# Altium integrated library NSC MiscPower.IntLib: 1417 symbols (part 34 of 39)
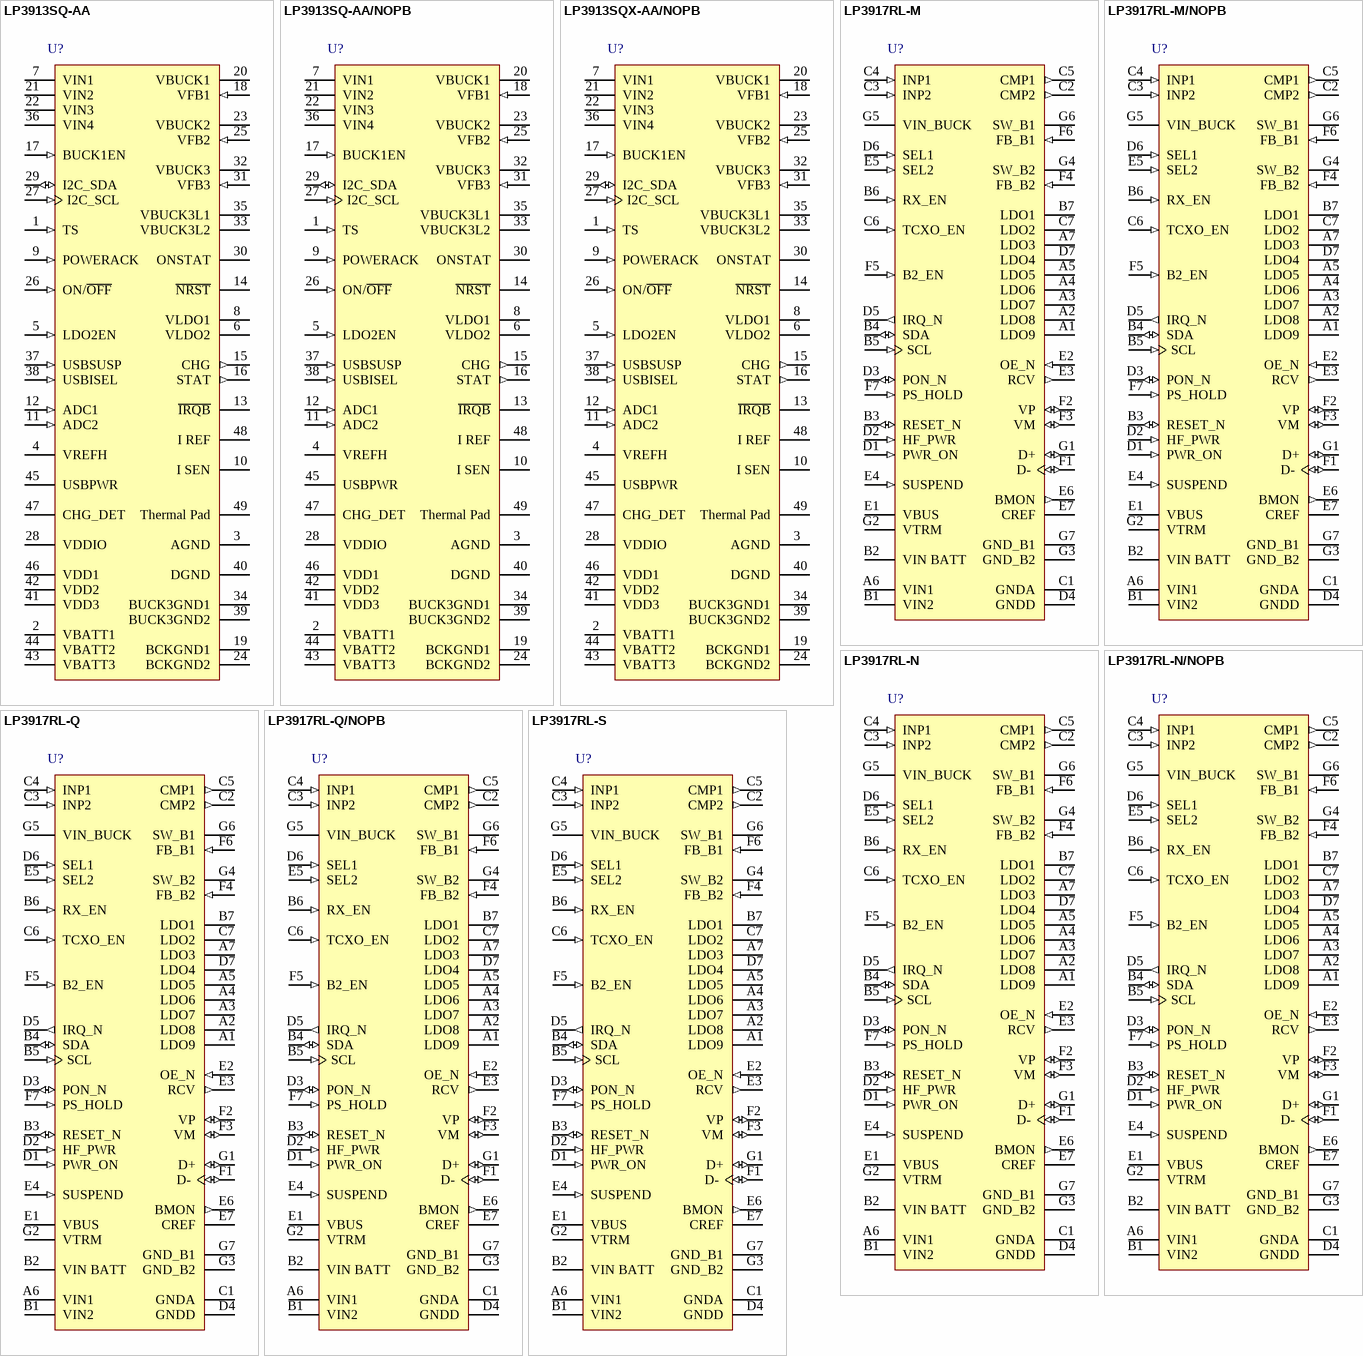
[diagram p84: symbols LP3913SQ-AA to LP3917RL-S]

## LP3913SQ-AA
designator U?
Power Management IC for Flash Memory Based Portable Media Players, 48-pin LLP; PartNumber: LP3913SQ-AA; Manufacturer: National Semiconductor; PackageTopMarking: NS*UZXYTT*L3913-AA; PowerWise: Y; CompType: MiscPower; Published: 4-Dec-2008; DatasheetVersion: Sep-2008; PackageVersion: revA, May-2004; PackageReference: SQF48A; Publisher: Altium Limited; PackageDescription: LLP, Quad, 6 x 6 x 0.8mm Body, 48 Lead, 0.4mm Pitch, 4.6 x 4.6mm Exposed Pad; RoHS: Y; PinCount: 48; ComponentLink1Description: LP3913 Datasheet; ComponentLink1URL: http://www.national.com/ds/LP/LP3913.pdf; ComponentLink2Description: LP3913 Web Page; ComponentLink2URL: http://www.national.com/pf/LP/LP3913.html; ComponentLink3Description: SQF48A Package Page; ComponentLink3URL: http://www.national.com/packaging/folders/sqf48a.html
footprint SQF48A (QFN, 48-Leads, Body 6x6 mm, Pitch 0.4mm, NSC Recommended)
pins: 1 TS (in), 2 VBATT1 (power), 3 AGND (power), 4 VREFH, 5 LDO2EN (in), 6 VLDO2 (power), 7 VIN1 (power), 8 VLDO1 (power), 9 POWERACK (in), 10 I SEN, 11 ADC2 (in), 12 ADC1 (in), 13 ~{IRQB} (oc), 14 ~{NRST} (oc), 15 CHG (out), 16 STAT (out), 17 BUCK1EN (in), 18 VFB1 (in), 19 BCKGND1 (power), 20 VBUCK1 (power), 21 VIN2 (power), 22 VIN3 (power), 23 VBUCK2 (power), 24 BCKGND2 (power), 25 VFB2 (in), 26 ON/~{OFF} (in), 27 I2C_SCL (in), 28 VDDIO (power), 29 I2C_SDA (io), 30 ONSTAT (oc), 31 VFB3 (in), 32 VBUCK3 (power), 33 VBUCK3L2, 34 BUCK3GND1 (power), 35 VBUCK3L1, 36 VIN4 (power), 37 USBSUSP (in), 38 USBISEL (in), 39 BUCK3GND2 (power), 40 DGND (power), 41 VDD3 (power), 42 VDD2 (power), 43 VBATT3 (power), 44 VBATT2 (power), 45 USBPWR (power), 46 VDD1 (power), 47 CHG_DET (power), 48 I REF, 49 Thermal Pad (power)

## LP3913SQ-AA/NOPB
designator U?
Power Management IC for Flash Memory Based Portable Media Players, 48-pin LLP, Pb-Free; PartNumber: LP3913SQ-AA/NOPB; Manufacturer: National Semiconductor; PackageTopMarking: NS*UZXYTTE#*L3913-AA; PowerWise: Y; CompType: MiscPower; Published: 1-Mar-2010; DatasheetVersion: Sep-2008; PackageVersion: revA, May-2004; PackageReference: SQF48A; Publisher: Altium Limited; PackageDescription: LLP, Quad, 6 x 6 x 0.8mm Body, 48 Lead, 0.4mm Pitch, 4.6 x 4.6mm Exposed Pad; Supplier 1: Digi-Key; Supplier Part Number 1: LP3913SQ-AATR-ND; Supplier 2: Digi-Key; Supplier Part Number 2: LP3913SQ-AACT-ND; Supplier 3: Digi-Key; Supplier Part Number 3: LP3913SQ-AADKR-ND; RoHS: Y; PinCount: 48; ComponentLink1Description: LP3913 Datasheet; ComponentLink1URL: http://www.national.com/ds/LP/LP3913.pdf; ComponentLink2Description: LP3913 Web Page; ComponentLink2URL: http://www.national.com/pf/LP/LP3913.html; ComponentLink3Description: SQF48A Package Page; ComponentLink3URL: http://www.national.com/packaging/folders/sqf48a.html
footprint SQF48A (QFN, 48-Leads, Body 6x6 mm, Pitch 0.4mm, NSC Recommended)
pins: 1 TS (in), 2 VBATT1 (power), 3 AGND (power), 4 VREFH, 5 LDO2EN (in), 6 VLDO2 (power), 7 VIN1 (power), 8 VLDO1 (power), 9 POWERACK (in), 10 I SEN, 11 ADC2 (in), 12 ADC1 (in), 13 ~{IRQB} (oc), 14 ~{NRST} (oc), 15 CHG (out), 16 STAT (out), 17 BUCK1EN (in), 18 VFB1 (in), 19 BCKGND1 (power), 20 VBUCK1 (power), 21 VIN2 (power), 22 VIN3 (power), 23 VBUCK2 (power), 24 BCKGND2 (power), 25 VFB2 (in), 26 ON/~{OFF} (in), 27 I2C_SCL (in), 28 VDDIO (power), 29 I2C_SDA (io), 30 ONSTAT (oc), 31 VFB3 (in), 32 VBUCK3 (power), 33 VBUCK3L2, 34 BUCK3GND1 (power), 35 VBUCK3L1, 36 VIN4 (power), 37 USBSUSP (in), 38 USBISEL (in), 39 BUCK3GND2 (power), 40 DGND (power), 41 VDD3 (power), 42 VDD2 (power), 43 VBATT3 (power), 44 VBATT2 (power), 45 USBPWR (power), 46 VDD1 (power), 47 CHG_DET (power), 48 I REF, 49 Thermal Pad (power)

## LP3913SQX-AA/NOPB
designator U?
Power Management IC for Flash Memory Based Portable Media Players, 48-pin LLP, Pb-Free; PartNumber: LP3913SQX-AA/NOPB; Manufacturer: National Semiconductor; PackageTopMarking: NS*UZXYTTE#*L3913-AA; PowerWise: Y; CompType: MiscPower; Published: 1-Mar-2010; DatasheetVersion: Sep-2008; PackageVersion: revA, May-2004; PackageReference: SQF48A; Publisher: Altium Limited; PackageDescription: LLP, Quad, 6 x 6 x 0.8mm Body, 48 Lead, 0.4mm Pitch, 4.6 x 4.6mm Exposed Pad; Supplier 1: Digi-Key; Supplier Part Number 1: LP3913SQX-AA-ND; RoHS: Y; PinCount: 48; ComponentLink1Description: LP3913 Datasheet; ComponentLink1URL: http://www.national.com/ds/LP/LP3913.pdf; ComponentLink2Description: LP3913 Web Page; ComponentLink2URL: http://www.national.com/pf/LP/LP3913.html; ComponentLink3Description: SQF48A Package Page; ComponentLink3URL: http://www.national.com/packaging/folders/sqf48a.html
footprint SQF48A (QFN, 48-Leads, Body 6x6 mm, Pitch 0.4mm, NSC Recommended)
pins: 1 TS (in), 2 VBATT1 (power), 3 AGND (power), 4 VREFH, 5 LDO2EN (in), 6 VLDO2 (power), 7 VIN1 (power), 8 VLDO1 (power), 9 POWERACK (in), 10 I SEN, 11 ADC2 (in), 12 ADC1 (in), 13 ~{IRQB} (oc), 14 ~{NRST} (oc), 15 CHG (out), 16 STAT (out), 17 BUCK1EN (in), 18 VFB1 (in), 19 BCKGND1 (power), 20 VBUCK1 (power), 21 VIN2 (power), 22 VIN3 (power), 23 VBUCK2 (power), 24 BCKGND2 (power), 25 VFB2 (in), 26 ON/~{OFF} (in), 27 I2C_SCL (in), 28 VDDIO (power), 29 I2C_SDA (io), 30 ONSTAT (oc), 31 VFB3 (in), 32 VBUCK3 (power), 33 VBUCK3L2, 34 BUCK3GND1 (power), 35 VBUCK3L1, 36 VIN4 (power), 37 USBSUSP (in), 38 USBISEL (in), 39 BUCK3GND2 (power), 40 DGND (power), 41 VDD3 (power), 42 VDD2 (power), 43 VBATT3 (power), 44 VBATT2 (power), 45 USBPWR (power), 46 VDD1 (power), 47 CHG_DET (power), 48 I REF, 49 Thermal Pad (power)

## LP3917RL-M
designator U?
CDMA Cellular Phone Power Management Unit, 49-pin Micro SMDXT; PartNumber: LP3917RL-M; Manufacturer: National Semiconductor; PackageTopMarking: XYTT*I V05; PowerWise: N; CompType: MiscPower; Published: 4-Dec-2008; DatasheetVersion: Dec-2006; PackageVersion: revB, Dec-2005; PackageReference: RLA49AAA; Publisher: Altium Limited; PackageDescription: Micro SMDxt, 49 Bump (Large), 0.5mm Pitch; RoHS: Y; PinCount: 49; ComponentLink1Description: LP3917 Datasheet; ComponentLink1URL: http://www.national.com/ds/LP/LP3917.pdf; ComponentLink2Description: LP3917 Web Page; ComponentLink2URL: http://www.national.com/pf/LP/LP3917.html; ComponentLink3Description: RLA49AAA Package Page; ComponentLink3URL: http://www.national.com/packaging/folders/rla49aaa.html
footprint RLA49AAA (Micro SMD, 49-Leads, Body 3.47x3.47mm, Pitch 0.5mm, NSC Recommended)
pins: A1 LDO9 (power), A2 LDO8 (power), A3 LDO7 (power), A4 LDO6 (power), A5 LDO5 (power), A6 VIN1 (power), A7 LDO3 (power), B1 VIN2 (power), B2 VIN BATT (power), B3 RESET_N (io), B4 SDA (io), B5 SCL (in), B6 RX_EN (in), B7 LDO1 (power), C1 GNDA (power), C2 CMP2 (out), C3 INP2 (in), C4 INP1 (in), C5 CMP1 (out), C6 TCXO_EN (in), C7 LDO2 (power), D1 PWR_ON (in), D2 HF_PWR (in), D3 PON_N (io), D4 GNDD (power), D5 IRQ_N (out), D6 SEL1 (in), D7 LDO4 (power), E1 VBUS (power), E2 OE_N (in), E3 RCV (out), E4 SUSPEND (in), E5 SEL2 (in), E6 BMON (out), E7 CREF, F1 D- (io), F2 VP (io), F3 VM (io), F4 FB_B2 (in), F5 B2_EN (in), F6 FB_B1 (in), F7 PS_HOLD (in), G1 D+ (io), G2 VTRM (power), G3 GND_B2 (power), G4 SW_B2 (power), G5 VIN_BUCK (power), G6 SW_B1 (power), G7 GND_B1 (power)

## LP3917RL-M/NOPB
designator U?
CDMA Cellular Phone Power Management Unit, 49-pin Micro SMDXT, Pb-Free; PartNumber: LP3917RL-M/NOPB; Manufacturer: National Semiconductor; PackageTopMarking: XYTT*I V05; PowerWise: N; CompType: MiscPower; Published: 1-Mar-2010; DatasheetVersion: Dec-2006; PackageVersion: revB, Dec-2005; PackageReference: RLA49AAA; Publisher: Altium Limited; PackageDescription: Micro SMDxt, 49 Bump (Large), 0.5mm Pitch; Supplier 1: Digi-Key; Supplier Part Number 1: LP3917RL-MTR-ND; Supplier 2: Digi-Key; Supplier Part Number 2: LP3917RL-MCT-ND; Supplier 3: Digi-Key; Supplier Part Number 3: LP3917RL-MDKR-ND; RoHS: Y; PinCount: 49; ComponentLink1Description: LP3917 Datasheet; ComponentLink1URL: http://www.national.com/ds/LP/LP3917.pdf; ComponentLink2Description: LP3917 Web Page; ComponentLink2URL: http://www.national.com/pf/LP/LP3917.html; ComponentLink3Description: RLA49AAA Package Page; ComponentLink3URL: http://www.national.com/packaging/folders/rla49aaa.html
footprint RLA49AAA (Micro SMD, 49-Leads, Body 3.47x3.47mm, Pitch 0.5mm, NSC Recommended)
pins: A1 LDO9 (power), A2 LDO8 (power), A3 LDO7 (power), A4 LDO6 (power), A5 LDO5 (power), A6 VIN1 (power), A7 LDO3 (power), B1 VIN2 (power), B2 VIN BATT (power), B3 RESET_N (io), B4 SDA (io), B5 SCL (in), B6 RX_EN (in), B7 LDO1 (power), C1 GNDA (power), C2 CMP2 (out), C3 INP2 (in), C4 INP1 (in), C5 CMP1 (out), C6 TCXO_EN (in), C7 LDO2 (power), D1 PWR_ON (in), D2 HF_PWR (in), D3 PON_N (io), D4 GNDD (power), D5 IRQ_N (out), D6 SEL1 (in), D7 LDO4 (power), E1 VBUS (power), E2 OE_N (in), E3 RCV (out), E4 SUSPEND (in), E5 SEL2 (in), E6 BMON (out), E7 CREF, F1 D- (io), F2 VP (io), F3 VM (io), F4 FB_B2 (in), F5 B2_EN (in), F6 FB_B1 (in), F7 PS_HOLD (in), G1 D+ (io), G2 VTRM (power), G3 GND_B2 (power), G4 SW_B2 (power), G5 VIN_BUCK (power), G6 SW_B1 (power), G7 GND_B1 (power)

## LP3917RL-N
designator U?
CDMA Cellular Phone Power Management Unit, 49-pin Micro SMDXT; PartNumber: LP3917RL-N; Manufacturer: National Semiconductor; PackageTopMarking: XYTT*I V03; PowerWise: N; CompType: MiscPower; Published: 4-Dec-2008; DatasheetVersion: Dec-2006; PackageVersion: revB, Dec-2005; PackageReference: RLA49AAA; Publisher: Altium Limited; PackageDescription: Micro SMDxt, 49 Bump (Large), 0.5mm Pitch; RoHS: Y; PinCount: 49; ComponentLink1Description: LP3917 Datasheet; ComponentLink1URL: http://www.national.com/ds/LP/LP3917.pdf; ComponentLink2Description: LP3917 Web Page; ComponentLink2URL: http://www.national.com/pf/LP/LP3917.html; ComponentLink3Description: RLA49AAA Package Page; ComponentLink3URL: http://www.national.com/packaging/folders/rla49aaa.html
footprint RLA49AAA (Micro SMD, 49-Leads, Body 3.47x3.47mm, Pitch 0.5mm, NSC Recommended)
pins: A1 LDO9 (power), A2 LDO8 (power), A3 LDO7 (power), A4 LDO6 (power), A5 LDO5 (power), A6 VIN1 (power), A7 LDO3 (power), B1 VIN2 (power), B2 VIN BATT (power), B3 RESET_N (io), B4 SDA (io), B5 SCL (in), B6 RX_EN (in), B7 LDO1 (power), C1 GNDA (power), C2 CMP2 (out), C3 INP2 (in), C4 INP1 (in), C5 CMP1 (out), C6 TCXO_EN (in), C7 LDO2 (power), D1 PWR_ON (in), D2 HF_PWR (in), D3 PON_N (io), D4 GNDD (power), D5 IRQ_N (out), D6 SEL1 (in), D7 LDO4 (power), E1 VBUS (power), E2 OE_N (in), E3 RCV (out), E4 SUSPEND (in), E5 SEL2 (in), E6 BMON (out), E7 CREF, F1 D- (io), F2 VP (io), F3 VM (io), F4 FB_B2 (in), F5 B2_EN (in), F6 FB_B1 (in), F7 PS_HOLD (in), G1 D+ (io), G2 VTRM (power), G3 GND_B2 (power), G4 SW_B2 (power), G5 VIN_BUCK (power), G6 SW_B1 (power), G7 GND_B1 (power)

## LP3917RL-N/NOPB
designator U?
CDMA Cellular Phone Power Management Unit, 49-pin Micro SMDXT, Pb-Free; PartNumber: LP3917RL-N/NOPB; Manufacturer: National Semiconductor; PackageTopMarking: XYTT*I V03; PowerWise: N; CompType: MiscPower; Published: 1-Mar-2010; DatasheetVersion: Dec-2006; PackageVersion: revB, Dec-2005; PackageReference: RLA49AAA; Publisher: Altium Limited; PackageDescription: Micro SMDxt, 49 Bump (Large), 0.5mm Pitch; Supplier 1: Digi-Key; Supplier Part Number 1: LP3917RL-NTR-ND; Supplier 2: Digi-Key; Supplier Part Number 2: LP3917RL-NCT-ND; Supplier 3: Digi-Key; Supplier Part Number 3: LP3917RL-NDKR-ND; RoHS: Y; PinCount: 49; ComponentLink1Description: LP3917 Datasheet; ComponentLink1URL: http://www.national.com/ds/LP/LP3917.pdf; ComponentLink2Description: LP3917 Web Page; ComponentLink2URL: http://www.national.com/pf/LP/LP3917.html; ComponentLink3Description: RLA49AAA Package Page; ComponentLink3URL: http://www.national.com/packaging/folders/rla49aaa.html
footprint RLA49AAA (Micro SMD, 49-Leads, Body 3.47x3.47mm, Pitch 0.5mm, NSC Recommended)
pins: A1 LDO9 (power), A2 LDO8 (power), A3 LDO7 (power), A4 LDO6 (power), A5 LDO5 (power), A6 VIN1 (power), A7 LDO3 (power), B1 VIN2 (power), B2 VIN BATT (power), B3 RESET_N (io), B4 SDA (io), B5 SCL (in), B6 RX_EN (in), B7 LDO1 (power), C1 GNDA (power), C2 CMP2 (out), C3 INP2 (in), C4 INP1 (in), C5 CMP1 (out), C6 TCXO_EN (in), C7 LDO2 (power), D1 PWR_ON (in), D2 HF_PWR (in), D3 PON_N (io), D4 GNDD (power), D5 IRQ_N (out), D6 SEL1 (in), D7 LDO4 (power), E1 VBUS (power), E2 OE_N (in), E3 RCV (out), E4 SUSPEND (in), E5 SEL2 (in), E6 BMON (out), E7 CREF, F1 D- (io), F2 VP (io), F3 VM (io), F4 FB_B2 (in), F5 B2_EN (in), F6 FB_B1 (in), F7 PS_HOLD (in), G1 D+ (io), G2 VTRM (power), G3 GND_B2 (power), G4 SW_B2 (power), G5 VIN_BUCK (power), G6 SW_B1 (power), G7 GND_B1 (power)

## LP3917RL-Q
designator U?
CDMA Cellular Phone Power Management Unit, 49-pin Micro SMDXT; PartNumber: LP3917RL-Q; Manufacturer: National Semiconductor; PackageTopMarking: XYTT*I V04; PowerWise: N; CompType: MiscPower; Published: 4-Dec-2008; DatasheetVersion: Dec-2006; PackageVersion: revB, Dec-2005; PackageReference: RLA49AAA; Publisher: Altium Limited; PackageDescription: Micro SMDxt, 49 Bump (Large), 0.5mm Pitch; RoHS: Y; PinCount: 49; ComponentLink1Description: LP3917 Datasheet; ComponentLink1URL: http://www.national.com/ds/LP/LP3917.pdf; ComponentLink2Description: LP3917 Web Page; ComponentLink2URL: http://www.national.com/pf/LP/LP3917.html; ComponentLink3Description: RLA49AAA Package Page; ComponentLink3URL: http://www.national.com/packaging/folders/rla49aaa.html
footprint RLA49AAA (Micro SMD, 49-Leads, Body 3.47x3.47mm, Pitch 0.5mm, NSC Recommended)
pins: A1 LDO9 (power), A2 LDO8 (power), A3 LDO7 (power), A4 LDO6 (power), A5 LDO5 (power), A6 VIN1 (power), A7 LDO3 (power), B1 VIN2 (power), B2 VIN BATT (power), B3 RESET_N (io), B4 SDA (io), B5 SCL (in), B6 RX_EN (in), B7 LDO1 (power), C1 GNDA (power), C2 CMP2 (out), C3 INP2 (in), C4 INP1 (in), C5 CMP1 (out), C6 TCXO_EN (in), C7 LDO2 (power), D1 PWR_ON (in), D2 HF_PWR (in), D3 PON_N (io), D4 GNDD (power), D5 IRQ_N (out), D6 SEL1 (in), D7 LDO4 (power), E1 VBUS (power), E2 OE_N (in), E3 RCV (out), E4 SUSPEND (in), E5 SEL2 (in), E6 BMON (out), E7 CREF, F1 D- (io), F2 VP (io), F3 VM (io), F4 FB_B2 (in), F5 B2_EN (in), F6 FB_B1 (in), F7 PS_HOLD (in), G1 D+ (io), G2 VTRM (power), G3 GND_B2 (power), G4 SW_B2 (power), G5 VIN_BUCK (power), G6 SW_B1 (power), G7 GND_B1 (power)

## LP3917RL-Q/NOPB
designator U?
CDMA Cellular Phone Power Management Unit, 49-pin Micro SMDXT, Pb-Free; PartNumber: LP3917RL-Q/NOPB; Manufacturer: National Semiconductor; PackageTopMarking: XYTT*I V04; PowerWise: N; CompType: MiscPower; Published: 1-Mar-2010; DatasheetVersion: Dec-2006; PackageVersion: revB, Dec-2005; PackageReference: RLA49AAA; Publisher: Altium Limited; PackageDescription: Micro SMDxt, 49 Bump (Large), 0.5mm Pitch; Supplier 1: Digi-Key; Supplier Part Number 1: LP3917RL-QTR-ND; Supplier 2: Digi-Key; Supplier Part Number 2: LP3917RL-QCT-ND; Supplier 3: Digi-Key; Supplier Part Number 3: LP3917RL-QDKR-ND; RoHS: Y; PinCount: 49; ComponentLink1Description: LP3917 Datasheet; ComponentLink1URL: http://www.national.com/ds/LP/LP3917.pdf; ComponentLink2Description: LP3917 Web Page; ComponentLink2URL: http://www.national.com/pf/LP/LP3917.html; ComponentLink3Description: RLA49AAA Package Page; ComponentLink3URL: http://www.national.com/packaging/folders/rla49aaa.html
footprint RLA49AAA (Micro SMD, 49-Leads, Body 3.47x3.47mm, Pitch 0.5mm, NSC Recommended)
pins: A1 LDO9 (power), A2 LDO8 (power), A3 LDO7 (power), A4 LDO6 (power), A5 LDO5 (power), A6 VIN1 (power), A7 LDO3 (power), B1 VIN2 (power), B2 VIN BATT (power), B3 RESET_N (io), B4 SDA (io), B5 SCL (in), B6 RX_EN (in), B7 LDO1 (power), C1 GNDA (power), C2 CMP2 (out), C3 INP2 (in), C4 INP1 (in), C5 CMP1 (out), C6 TCXO_EN (in), C7 LDO2 (power), D1 PWR_ON (in), D2 HF_PWR (in), D3 PON_N (io), D4 GNDD (power), D5 IRQ_N (out), D6 SEL1 (in), D7 LDO4 (power), E1 VBUS (power), E2 OE_N (in), E3 RCV (out), E4 SUSPEND (in), E5 SEL2 (in), E6 BMON (out), E7 CREF, F1 D- (io), F2 VP (io), F3 VM (io), F4 FB_B2 (in), F5 B2_EN (in), F6 FB_B1 (in), F7 PS_HOLD (in), G1 D+ (io), G2 VTRM (power), G3 GND_B2 (power), G4 SW_B2 (power), G5 VIN_BUCK (power), G6 SW_B1 (power), G7 GND_B1 (power)

## LP3917RL-S
designator U?
CDMA Cellular Phone Power Management Unit, 49-pin Micro SMDXT; PartNumber: LP3917RL-S; Manufacturer: National Semiconductor; PackageTopMarking: XYTT*I V01; PowerWise: N; CompType: MiscPower; Published: 4-Dec-2008; DatasheetVersion: Dec-2006; PackageVersion: revB, Dec-2005; PackageReference: RLA49AAA; Publisher: Altium Limited; PackageDescription: Micro SMDxt, 49 Bump (Large), 0.5mm Pitch; RoHS: Y; PinCount: 49; ComponentLink1Description: LP3917 Datasheet; ComponentLink1URL: http://www.national.com/ds/LP/LP3917.pdf; ComponentLink2Description: LP3917 Web Page; ComponentLink2URL: http://www.national.com/pf/LP/LP3917.html; ComponentLink3Description: RLA49AAA Package Page; ComponentLink3URL: http://www.national.com/packaging/folders/rla49aaa.html
footprint RLA49AAA (Micro SMD, 49-Leads, Body 3.47x3.47mm, Pitch 0.5mm, NSC Recommended)
pins: A1 LDO9 (power), A2 LDO8 (power), A3 LDO7 (power), A4 LDO6 (power), A5 LDO5 (power), A6 VIN1 (power), A7 LDO3 (power), B1 VIN2 (power), B2 VIN BATT (power), B3 RESET_N (io), B4 SDA (io), B5 SCL (in), B6 RX_EN (in), B7 LDO1 (power), C1 GNDA (power), C2 CMP2 (out), C3 INP2 (in), C4 INP1 (in), C5 CMP1 (out), C6 TCXO_EN (in), C7 LDO2 (power), D1 PWR_ON (in), D2 HF_PWR (in), D3 PON_N (io), D4 GNDD (power), D5 IRQ_N (out), D6 SEL1 (in), D7 LDO4 (power), E1 VBUS (power), E2 OE_N (in), E3 RCV (out), E4 SUSPEND (in), E5 SEL2 (in), E6 BMON (out), E7 CREF, F1 D- (io), F2 VP (io), F3 VM (io), F4 FB_B2 (in), F5 B2_EN (in), F6 FB_B1 (in), F7 PS_HOLD (in), G1 D+ (io), G2 VTRM (power), G3 GND_B2 (power), G4 SW_B2 (power), G5 VIN_BUCK (power), G6 SW_B1 (power), G7 GND_B1 (power)

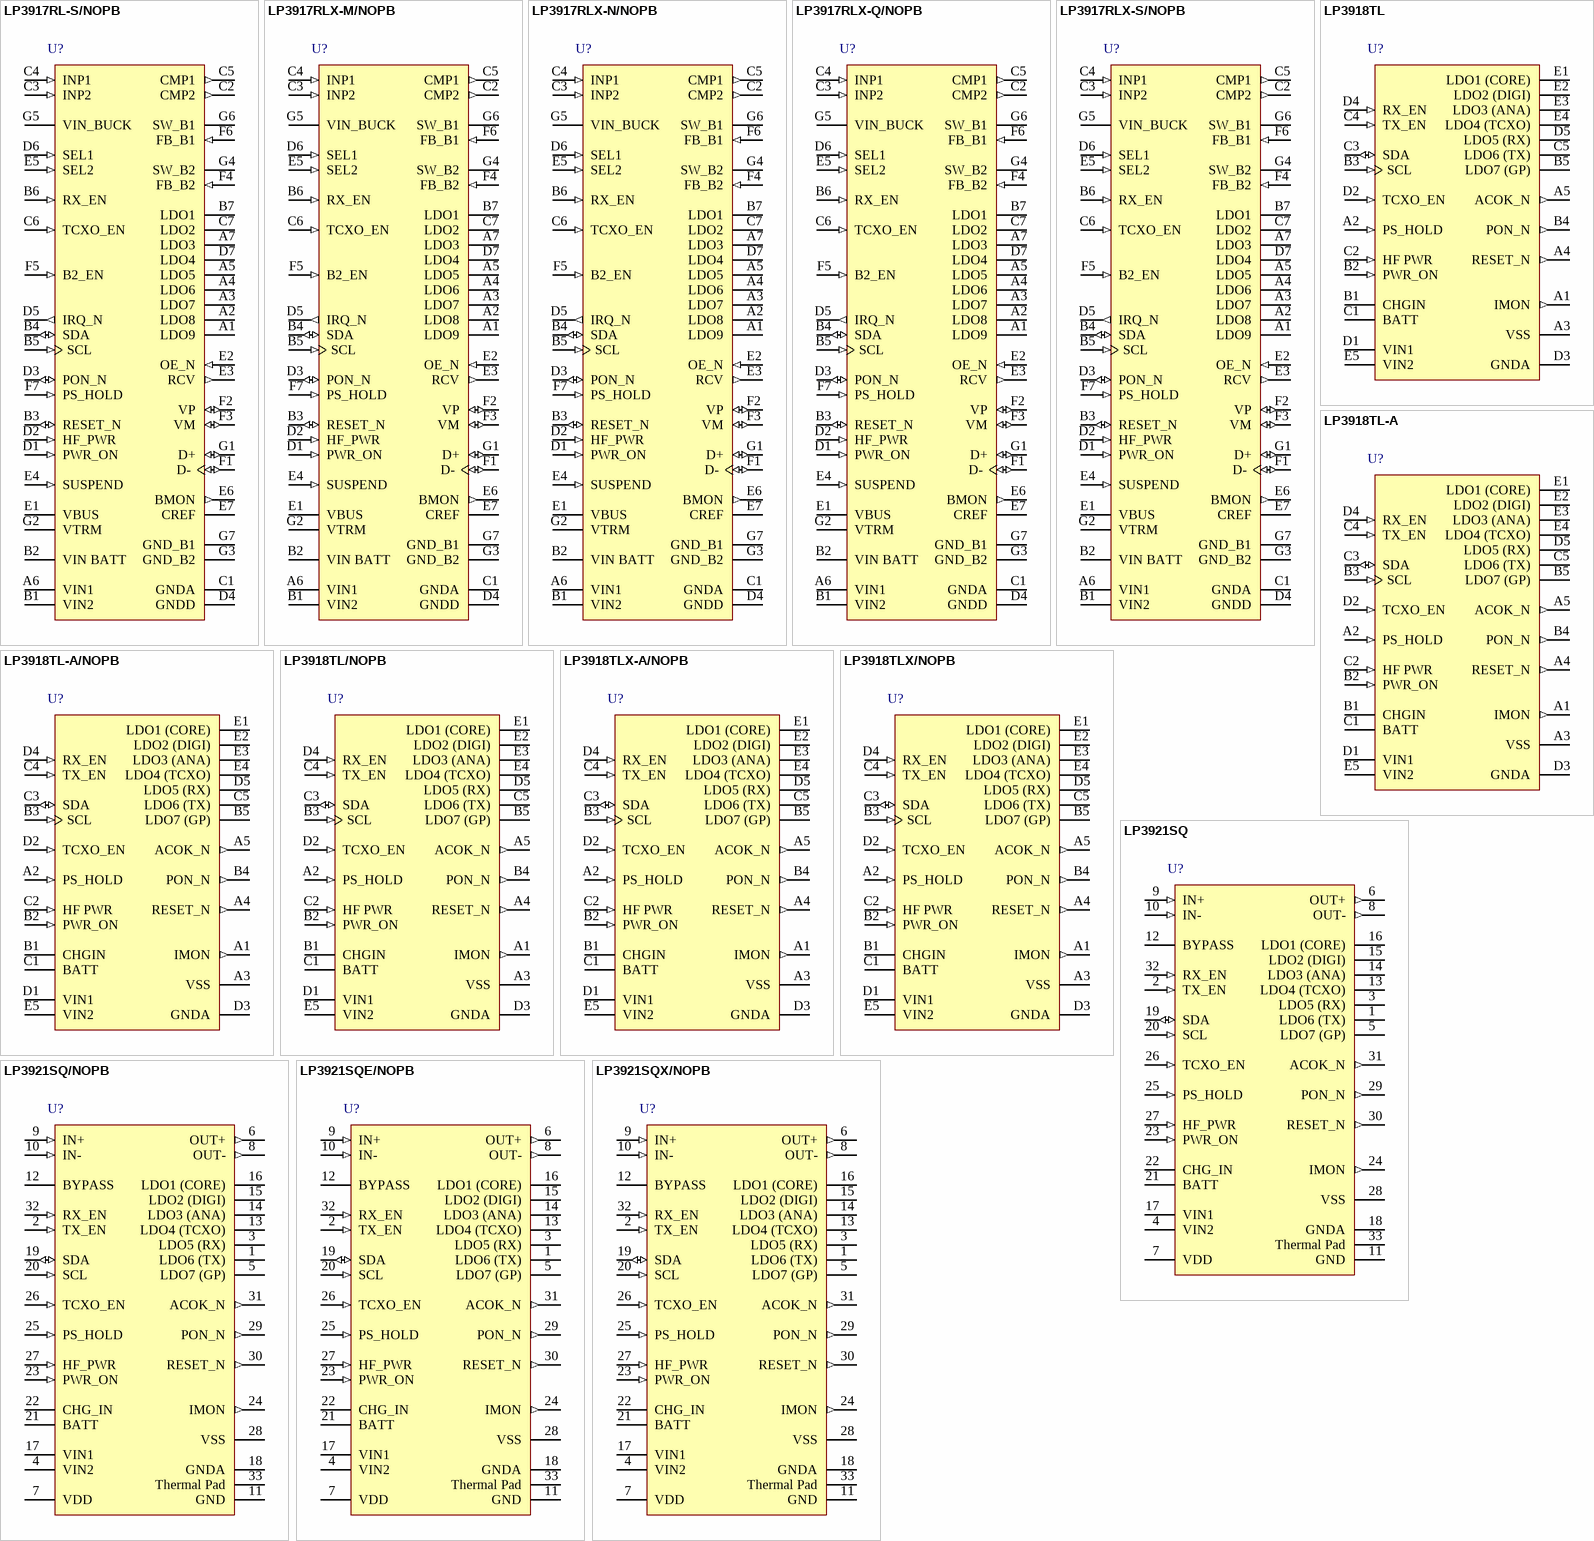
[diagram p38: symbols LP3917RL-S/NOPB to LP3921SQX/NOPB]

## LP3917RL-S/NOPB
designator U?
CDMA Cellular Phone Power Management Unit, 49-pin Micro SMDXT, Pb-Free; PartNumber: LP3917RL-S/NOPB; Manufacturer: National Semiconductor; PackageTopMarking: XYTT*I V01; PowerWise: N; CompType: MiscPower; Published: 1-Mar-2010; DatasheetVersion: Dec-2006; PackageVersion: revB, Dec-2005; PackageReference: RLA49AAA; Publisher: Altium Limited; PackageDescription: Micro SMDxt, 49 Bump (Large), 0.5mm Pitch; Supplier 1: Digi-Key; Supplier Part Number 1: LP3917RL-STR-ND; Supplier 2: Digi-Key; Supplier Part Number 2: LP3917RL-SCT-ND; Supplier 3: Digi-Key; Supplier Part Number 3: LP3917RL-SDKR-ND; RoHS: Y; PinCount: 49; ComponentLink1Description: LP3917 Datasheet; ComponentLink1URL: http://www.national.com/ds/LP/LP3917.pdf; ComponentLink2Description: LP3917 Web Page; ComponentLink2URL: http://www.national.com/pf/LP/LP3917.html; ComponentLink3Description: RLA49AAA Package Page; ComponentLink3URL: http://www.national.com/packaging/folders/rla49aaa.html
footprint RLA49AAA (Micro SMD, 49-Leads, Body 3.47x3.47mm, Pitch 0.5mm, NSC Recommended)
pins: A1 LDO9 (power), A2 LDO8 (power), A3 LDO7 (power), A4 LDO6 (power), A5 LDO5 (power), A6 VIN1 (power), A7 LDO3 (power), B1 VIN2 (power), B2 VIN BATT (power), B3 RESET_N (io), B4 SDA (io), B5 SCL (in), B6 RX_EN (in), B7 LDO1 (power), C1 GNDA (power), C2 CMP2 (out), C3 INP2 (in), C4 INP1 (in), C5 CMP1 (out), C6 TCXO_EN (in), C7 LDO2 (power), D1 PWR_ON (in), D2 HF_PWR (in), D3 PON_N (io), D4 GNDD (power), D5 IRQ_N (out), D6 SEL1 (in), D7 LDO4 (power), E1 VBUS (power), E2 OE_N (in), E3 RCV (out), E4 SUSPEND (in), E5 SEL2 (in), E6 BMON (out), E7 CREF, F1 D- (io), F2 VP (io), F3 VM (io), F4 FB_B2 (in), F5 B2_EN (in), F6 FB_B1 (in), F7 PS_HOLD (in), G1 D+ (io), G2 VTRM (power), G3 GND_B2 (power), G4 SW_B2 (power), G5 VIN_BUCK (power), G6 SW_B1 (power), G7 GND_B1 (power)

## LP3917RLX-M/NOPB
designator U?
CDMA Cellular Phone Power Management Unit, 49-pin Micro SMDXT, Pb-Free; PartNumber: LP3917RLX-M/NOPB; Manufacturer: National Semiconductor; PackageTopMarking: XYTT*I V05; PowerWise: N; CompType: MiscPower; Published: 1-Mar-2010; DatasheetVersion: Dec-2006; PackageVersion: revB, Dec-2005; PackageReference: RLA49AAA; Publisher: Altium Limited; PackageDescription: Micro SMDxt, 49 Bump (Large), 0.5mm Pitch; Supplier 1: Digi-Key; Supplier Part Number 1: LP3917RLX-M-ND; RoHS: Y; PinCount: 49; ComponentLink1Description: LP3917 Datasheet; ComponentLink1URL: http://www.national.com/ds/LP/LP3917.pdf; ComponentLink2Description: LP3917 Web Page; ComponentLink2URL: http://www.national.com/pf/LP/LP3917.html; ComponentLink3Description: RLA49AAA Package Page; ComponentLink3URL: http://www.national.com/packaging/folders/rla49aaa.html
footprint RLA49AAA (Micro SMD, 49-Leads, Body 3.47x3.47mm, Pitch 0.5mm, NSC Recommended)
pins: A1 LDO9 (power), A2 LDO8 (power), A3 LDO7 (power), A4 LDO6 (power), A5 LDO5 (power), A6 VIN1 (power), A7 LDO3 (power), B1 VIN2 (power), B2 VIN BATT (power), B3 RESET_N (io), B4 SDA (io), B5 SCL (in), B6 RX_EN (in), B7 LDO1 (power), C1 GNDA (power), C2 CMP2 (out), C3 INP2 (in), C4 INP1 (in), C5 CMP1 (out), C6 TCXO_EN (in), C7 LDO2 (power), D1 PWR_ON (in), D2 HF_PWR (in), D3 PON_N (io), D4 GNDD (power), D5 IRQ_N (out), D6 SEL1 (in), D7 LDO4 (power), E1 VBUS (power), E2 OE_N (in), E3 RCV (out), E4 SUSPEND (in), E5 SEL2 (in), E6 BMON (out), E7 CREF, F1 D- (io), F2 VP (io), F3 VM (io), F4 FB_B2 (in), F5 B2_EN (in), F6 FB_B1 (in), F7 PS_HOLD (in), G1 D+ (io), G2 VTRM (power), G3 GND_B2 (power), G4 SW_B2 (power), G5 VIN_BUCK (power), G6 SW_B1 (power), G7 GND_B1 (power)

## LP3917RLX-N/NOPB
designator U?
CDMA Cellular Phone Power Management Unit, 49-pin Micro SMDXT, Pb-Free; PartNumber: LP3917RLX-N/NOPB; Manufacturer: National Semiconductor; PackageTopMarking: XYTT*I V03; PowerWise: N; CompType: MiscPower; Published: 1-Mar-2010; DatasheetVersion: Dec-2006; PackageVersion: revB, Dec-2005; PackageReference: RLA49AAA; Publisher: Altium Limited; PackageDescription: Micro SMDxt, 49 Bump (Large), 0.5mm Pitch; Supplier 1: Digi-Key; Supplier Part Number 1: LP3917RLX-N-ND; RoHS: Y; PinCount: 49; ComponentLink1Description: LP3917 Datasheet; ComponentLink1URL: http://www.national.com/ds/LP/LP3917.pdf; ComponentLink2Description: LP3917 Web Page; ComponentLink2URL: http://www.national.com/pf/LP/LP3917.html; ComponentLink3Description: RLA49AAA Package Page; ComponentLink3URL: http://www.national.com/packaging/folders/rla49aaa.html
footprint RLA49AAA (Micro SMD, 49-Leads, Body 3.47x3.47mm, Pitch 0.5mm, NSC Recommended)
pins: A1 LDO9 (power), A2 LDO8 (power), A3 LDO7 (power), A4 LDO6 (power), A5 LDO5 (power), A6 VIN1 (power), A7 LDO3 (power), B1 VIN2 (power), B2 VIN BATT (power), B3 RESET_N (io), B4 SDA (io), B5 SCL (in), B6 RX_EN (in), B7 LDO1 (power), C1 GNDA (power), C2 CMP2 (out), C3 INP2 (in), C4 INP1 (in), C5 CMP1 (out), C6 TCXO_EN (in), C7 LDO2 (power), D1 PWR_ON (in), D2 HF_PWR (in), D3 PON_N (io), D4 GNDD (power), D5 IRQ_N (out), D6 SEL1 (in), D7 LDO4 (power), E1 VBUS (power), E2 OE_N (in), E3 RCV (out), E4 SUSPEND (in), E5 SEL2 (in), E6 BMON (out), E7 CREF, F1 D- (io), F2 VP (io), F3 VM (io), F4 FB_B2 (in), F5 B2_EN (in), F6 FB_B1 (in), F7 PS_HOLD (in), G1 D+ (io), G2 VTRM (power), G3 GND_B2 (power), G4 SW_B2 (power), G5 VIN_BUCK (power), G6 SW_B1 (power), G7 GND_B1 (power)

## LP3917RLX-Q/NOPB
designator U?
CDMA Cellular Phone Power Management Unit, 49-pin Micro SMDXT, Pb-Free; PartNumber: LP3917RLX-Q/NOPB; Manufacturer: National Semiconductor; PackageTopMarking: XYTT*I V04; PowerWise: N; CompType: MiscPower; Published: 1-Mar-2010; DatasheetVersion: Dec-2006; PackageVersion: revB, Dec-2005; PackageReference: RLA49AAA; Publisher: Altium Limited; PackageDescription: Micro SMDxt, 49 Bump (Large), 0.5mm Pitch; Supplier 1: Digi-Key; Supplier Part Number 1: LP3917RLX-Q-ND; RoHS: Y; PinCount: 49; ComponentLink1Description: LP3917 Datasheet; ComponentLink1URL: http://www.national.com/ds/LP/LP3917.pdf; ComponentLink2Description: LP3917 Web Page; ComponentLink2URL: http://www.national.com/pf/LP/LP3917.html; ComponentLink3Description: RLA49AAA Package Page; ComponentLink3URL: http://www.national.com/packaging/folders/rla49aaa.html
footprint RLA49AAA (Micro SMD, 49-Leads, Body 3.47x3.47mm, Pitch 0.5mm, NSC Recommended)
pins: A1 LDO9 (power), A2 LDO8 (power), A3 LDO7 (power), A4 LDO6 (power), A5 LDO5 (power), A6 VIN1 (power), A7 LDO3 (power), B1 VIN2 (power), B2 VIN BATT (power), B3 RESET_N (io), B4 SDA (io), B5 SCL (in), B6 RX_EN (in), B7 LDO1 (power), C1 GNDA (power), C2 CMP2 (out), C3 INP2 (in), C4 INP1 (in), C5 CMP1 (out), C6 TCXO_EN (in), C7 LDO2 (power), D1 PWR_ON (in), D2 HF_PWR (in), D3 PON_N (io), D4 GNDD (power), D5 IRQ_N (out), D6 SEL1 (in), D7 LDO4 (power), E1 VBUS (power), E2 OE_N (in), E3 RCV (out), E4 SUSPEND (in), E5 SEL2 (in), E6 BMON (out), E7 CREF, F1 D- (io), F2 VP (io), F3 VM (io), F4 FB_B2 (in), F5 B2_EN (in), F6 FB_B1 (in), F7 PS_HOLD (in), G1 D+ (io), G2 VTRM (power), G3 GND_B2 (power), G4 SW_B2 (power), G5 VIN_BUCK (power), G6 SW_B1 (power), G7 GND_B1 (power)

## LP3917RLX-S/NOPB
designator U?
CDMA Cellular Phone Power Management Unit, 49-pin Micro SMDXT, Pb-Free; PartNumber: LP3917RLX-S/NOPB; Manufacturer: National Semiconductor; PackageTopMarking: XYTT*I V01; PowerWise: N; CompType: MiscPower; Published: 1-Mar-2010; DatasheetVersion: Dec-2006; PackageVersion: revB, Dec-2005; PackageReference: RLA49AAA; Publisher: Altium Limited; PackageDescription: Micro SMDxt, 49 Bump (Large), 0.5mm Pitch; Supplier 1: Digi-Key; Supplier Part Number 1: LP3917RLX-S-ND; RoHS: Y; PinCount: 49; ComponentLink1Description: LP3917 Datasheet; ComponentLink1URL: http://www.national.com/ds/LP/LP3917.pdf; ComponentLink2Description: LP3917 Web Page; ComponentLink2URL: http://www.national.com/pf/LP/LP3917.html; ComponentLink3Description: RLA49AAA Package Page; ComponentLink3URL: http://www.national.com/packaging/folders/rla49aaa.html
footprint RLA49AAA (Micro SMD, 49-Leads, Body 3.47x3.47mm, Pitch 0.5mm, NSC Recommended)
pins: A1 LDO9 (power), A2 LDO8 (power), A3 LDO7 (power), A4 LDO6 (power), A5 LDO5 (power), A6 VIN1 (power), A7 LDO3 (power), B1 VIN2 (power), B2 VIN BATT (power), B3 RESET_N (io), B4 SDA (io), B5 SCL (in), B6 RX_EN (in), B7 LDO1 (power), C1 GNDA (power), C2 CMP2 (out), C3 INP2 (in), C4 INP1 (in), C5 CMP1 (out), C6 TCXO_EN (in), C7 LDO2 (power), D1 PWR_ON (in), D2 HF_PWR (in), D3 PON_N (io), D4 GNDD (power), D5 IRQ_N (out), D6 SEL1 (in), D7 LDO4 (power), E1 VBUS (power), E2 OE_N (in), E3 RCV (out), E4 SUSPEND (in), E5 SEL2 (in), E6 BMON (out), E7 CREF, F1 D- (io), F2 VP (io), F3 VM (io), F4 FB_B2 (in), F5 B2_EN (in), F6 FB_B1 (in), F7 PS_HOLD (in), G1 D+ (io), G2 VTRM (power), G3 GND_B2 (power), G4 SW_B2 (power), G5 VIN_BUCK (power), G6 SW_B1 (power), G7 GND_B1 (power)

## LP3918TL
designator U?
Battery Charge Management and Regulator Unit, 25-pin Micro SMD; PartNumber: LP3918TL; Manufacturer: National Semiconductor; PackageTopMarking: XYTT*I 3918; PowerWise: N; CompType: MiscPower; Published: 4-Dec-2008; DatasheetVersion: Apr-2009; PackageVersion: revD, Dec-2003; PackageReference: TLA2511A; Publisher: Altium Limited; PackageDescription: Thin Micro SMD, 25 Bump (Large), 0.5mm Pitch; RoHS: Y; PinCount: 25; Code_JEDEC: MO-211-DH; ComponentLink1Description: LP3918 Datasheet; ComponentLink1URL: http://www.national.com/ds/LP/LP3918.pdf; ComponentLink2Description: LP3918 Web Page; ComponentLink2URL: http://www.national.com/pf/LP/LP3918.html; ComponentLink3Description: TLA2511A Package Page; ComponentLink3URL: http://www.national.com/packaging/folders/tla2511a.html
footprint TLA2511A (Micro SMD, 25-Leads, Body 2.47x2.47mm, Pitch 0.5mm, NSC Recommended)
pins: A1 IMON (out), A2 PS_HOLD (in), A3 VSS (power), A4 RESET_N (out), A5 ACOK_N (out), B1 CHGIN (power), B2 PWR_ON (in), B3 SCL (in), B4 PON_N (out), B5 LDO7 (GP) (power), C1 BATT (power), C2 HF PWR (in), C3 SDA (io), C4 TX_EN (in), C5 LDO6 (TX) (power), D1 VIN1 (power), D2 TCXO_EN (in), D3 GNDA (power), D4 RX_EN (in), D5 LDO5 (RX) (power), E1 LDO1 (CORE) (power), E2 LDO2 (DIGI) (power), E3 LDO3 (ANA) (power), E4 LDO4 (TCXO) (power), E5 VIN2 (power)

## LP3918TL-A
designator U?
Battery Charge Management and Regulator Unit, 25-pin Micro SMD; PartNumber: LP3918TL-A; Manufacturer: National Semiconductor; PackageTopMarking: XYTT*I V011; PowerWise: N; CompType: MiscPower; Published: 4-Dec-2008; DatasheetVersion: Apr-2009; PackageVersion: revD, Dec-2003; PackageReference: TLA2511A; Publisher: Altium Limited; PackageDescription: Thin Micro SMD, 25 Bump (Large), 0.5mm Pitch; RoHS: Y; PinCount: 25; Code_JEDEC: MO-211-DH; ComponentLink1Description: LP3918 Datasheet; ComponentLink1URL: http://www.national.com/ds/LP/LP3918.pdf; ComponentLink2Description: LP3918 Web Page; ComponentLink2URL: http://www.national.com/pf/LP/LP3918.html; ComponentLink3Description: TLA2511A Package Page; ComponentLink3URL: http://www.national.com/packaging/folders/tla2511a.html
footprint TLA2511A (Micro SMD, 25-Leads, Body 2.47x2.47mm, Pitch 0.5mm, NSC Recommended)
pins: A1 IMON (out), A2 PS_HOLD (in), A3 VSS (power), A4 RESET_N (out), A5 ACOK_N (out), B1 CHGIN (power), B2 PWR_ON (in), B3 SCL (in), B4 PON_N (out), B5 LDO7 (GP) (power), C1 BATT (power), C2 HF PWR (in), C3 SDA (io), C4 TX_EN (in), C5 LDO6 (TX) (power), D1 VIN1 (power), D2 TCXO_EN (in), D3 GNDA (power), D4 RX_EN (in), D5 LDO5 (RX) (power), E1 LDO1 (CORE) (power), E2 LDO2 (DIGI) (power), E3 LDO3 (ANA) (power), E4 LDO4 (TCXO) (power), E5 VIN2 (power)

## LP3918TL-A/NOPB
designator U?
Battery Charge Management and Regulator Unit, 25-pin Micro SMD, Pb-Free; PartNumber: LP3918TL-A/NOPB; Manufacturer: National Semiconductor; PackageTopMarking: XYTT*I V011; PowerWise: N; CompType: MiscPower; Published: 1-Mar-2010; DatasheetVersion: Apr-2009; PackageVersion: revD, Dec-2003; PackageReference: TLA2511A; Publisher: Altium Limited; PackageDescription: Thin Micro SMD, 25 Bump (Large), 0.5mm Pitch; Supplier 1: Digi-Key; Supplier Part Number 1: LP3918TL-ATR-ND; Supplier 2: Digi-Key; Supplier Part Number 2: LP3918TL-ACT-ND; Supplier 3: Digi-Key; Supplier Part Number 3: LP3918TL-ADKR-ND; RoHS: Y; PinCount: 25; Code_JEDEC: MO-211-DH; ComponentLink1Description: LP3918 Datasheet; ComponentLink1URL: http://www.national.com/ds/LP/LP3918.pdf; ComponentLink2Description: LP3918 Web Page; ComponentLink2URL: http://www.national.com/pf/LP/LP3918.html; ComponentLink3Description: TLA2511A Package Page; ComponentLink3URL: http://www.national.com/packaging/folders/tla2511a.html
footprint TLA2511A (Micro SMD, 25-Leads, Body 2.47x2.47mm, Pitch 0.5mm, NSC Recommended)
pins: A1 IMON (out), A2 PS_HOLD (in), A3 VSS (power), A4 RESET_N (out), A5 ACOK_N (out), B1 CHGIN (power), B2 PWR_ON (in), B3 SCL (in), B4 PON_N (out), B5 LDO7 (GP) (power), C1 BATT (power), C2 HF PWR (in), C3 SDA (io), C4 TX_EN (in), C5 LDO6 (TX) (power), D1 VIN1 (power), D2 TCXO_EN (in), D3 GNDA (power), D4 RX_EN (in), D5 LDO5 (RX) (power), E1 LDO1 (CORE) (power), E2 LDO2 (DIGI) (power), E3 LDO3 (ANA) (power), E4 LDO4 (TCXO) (power), E5 VIN2 (power)

## LP3918TL/NOPB
designator U?
Battery Charge Management and Regulator Unit, 25-pin Micro SMD, Pb-Free; PartNumber: LP3918TL/NOPB; Manufacturer: National Semiconductor; PackageTopMarking: XYTT*I 3918; PowerWise: N; CompType: MiscPower; Published: 1-Mar-2010; DatasheetVersion: Apr-2009; PackageVersion: revD, Dec-2003; PackageReference: TLA2511A; Publisher: Altium Limited; PackageDescription: Thin Micro SMD, 25 Bump (Large), 0.5mm Pitch; Supplier 1: Digi-Key; Supplier Part Number 1: LP3918TLTR-ND; Supplier 2: Digi-Key; Supplier Part Number 2: LP3918TLCT-ND; Supplier 3: Digi-Key; Supplier Part Number 3: LP3918TLDKR-ND; RoHS: Y; PinCount: 25; Code_JEDEC: MO-211-DH; ComponentLink1Description: LP3918 Datasheet; ComponentLink1URL: http://www.national.com/ds/LP/LP3918.pdf; ComponentLink2Description: LP3918 Web Page; ComponentLink2URL: http://www.national.com/pf/LP/LP3918.html; ComponentLink3Description: TLA2511A Package Page; ComponentLink3URL: http://www.national.com/packaging/folders/tla2511a.html
footprint TLA2511A (Micro SMD, 25-Leads, Body 2.47x2.47mm, Pitch 0.5mm, NSC Recommended)
pins: A1 IMON (out), A2 PS_HOLD (in), A3 VSS (power), A4 RESET_N (out), A5 ACOK_N (out), B1 CHGIN (power), B2 PWR_ON (in), B3 SCL (in), B4 PON_N (out), B5 LDO7 (GP) (power), C1 BATT (power), C2 HF PWR (in), C3 SDA (io), C4 TX_EN (in), C5 LDO6 (TX) (power), D1 VIN1 (power), D2 TCXO_EN (in), D3 GNDA (power), D4 RX_EN (in), D5 LDO5 (RX) (power), E1 LDO1 (CORE) (power), E2 LDO2 (DIGI) (power), E3 LDO3 (ANA) (power), E4 LDO4 (TCXO) (power), E5 VIN2 (power)

## LP3918TLX-A/NOPB
designator U?
Battery Charge Management and Regulator Unit, 25-pin Micro SMD, Pb-Free; PartNumber: LP3918TLX-A/NOPB; Manufacturer: National Semiconductor; PackageTopMarking: XYTT*I V011; PowerWise: N; CompType: MiscPower; Published: 1-Mar-2010; DatasheetVersion: Apr-2009; PackageVersion: revD, Dec-2003; PackageReference: TLA2511A; Publisher: Altium Limited; PackageDescription: Thin Micro SMD, 25 Bump (Large), 0.5mm Pitch; Supplier 1: Digi-Key; Supplier Part Number 1: LP3918TLX-A-ND; RoHS: Y; PinCount: 25; Code_JEDEC: MO-211-DH; ComponentLink1Description: LP3918 Datasheet; ComponentLink1URL: http://www.national.com/ds/LP/LP3918.pdf; ComponentLink2Description: LP3918 Web Page; ComponentLink2URL: http://www.national.com/pf/LP/LP3918.html; ComponentLink3Description: TLA2511A Package Page; ComponentLink3URL: http://www.national.com/packaging/folders/tla2511a.html
footprint TLA2511A (Micro SMD, 25-Leads, Body 2.47x2.47mm, Pitch 0.5mm, NSC Recommended)
pins: A1 IMON (out), A2 PS_HOLD (in), A3 VSS (power), A4 RESET_N (out), A5 ACOK_N (out), B1 CHGIN (power), B2 PWR_ON (in), B3 SCL (in), B4 PON_N (out), B5 LDO7 (GP) (power), C1 BATT (power), C2 HF PWR (in), C3 SDA (io), C4 TX_EN (in), C5 LDO6 (TX) (power), D1 VIN1 (power), D2 TCXO_EN (in), D3 GNDA (power), D4 RX_EN (in), D5 LDO5 (RX) (power), E1 LDO1 (CORE) (power), E2 LDO2 (DIGI) (power), E3 LDO3 (ANA) (power), E4 LDO4 (TCXO) (power), E5 VIN2 (power)

## LP3918TLX/NOPB
designator U?
Battery Charge Management and Regulator Unit, 25-pin Micro SMD, Pb-Free; PartNumber: LP3918TLX/NOPB; Manufacturer: National Semiconductor; PackageTopMarking: XYTT*I 3918; PowerWise: N; CompType: MiscPower; Published: 1-Mar-2010; DatasheetVersion: Apr-2009; PackageVersion: revD, Dec-2003; PackageReference: TLA2511A; Publisher: Altium Limited; PackageDescription: Thin Micro SMD, 25 Bump (Large), 0.5mm Pitch; Supplier 1: Digi-Key; Supplier Part Number 1: LP3918TLX-ND; RoHS: Y; PinCount: 25; Code_JEDEC: MO-211-DH; ComponentLink1Description: LP3918 Datasheet; ComponentLink1URL: http://www.national.com/ds/LP/LP3918.pdf; ComponentLink2Description: LP3918 Web Page; ComponentLink2URL: http://www.national.com/pf/LP/LP3918.html; ComponentLink3Description: TLA2511A Package Page; ComponentLink3URL: http://www.national.com/packaging/folders/tla2511a.html
footprint TLA2511A (Micro SMD, 25-Leads, Body 2.47x2.47mm, Pitch 0.5mm, NSC Recommended)
pins: A1 IMON (out), A2 PS_HOLD (in), A3 VSS (power), A4 RESET_N (out), A5 ACOK_N (out), B1 CHGIN (power), B2 PWR_ON (in), B3 SCL (in), B4 PON_N (out), B5 LDO7 (GP) (power), C1 BATT (power), C2 HF PWR (in), C3 SDA (io), C4 TX_EN (in), C5 LDO6 (TX) (power), D1 VIN1 (power), D2 TCXO_EN (in), D3 GNDA (power), D4 RX_EN (in), D5 LDO5 (RX) (power), E1 LDO1 (CORE) (power), E2 LDO2 (DIGI) (power), E3 LDO3 (ANA) (power), E4 LDO4 (TCXO) (power), E5 VIN2 (power)

## LP3921SQ
designator U?
Battery Charger Management and Regulator Unit with Integrated Boomer Audio Amplifier, 32-pin LLP; PartNumber: LP3921SQ; Manufacturer: National Semiconductor; PackageTopMarking: NS*UZXYTT*L3921SQ; PowerWise: N; CompType: MiscPower; Published: 4-Dec-2008; DatasheetVersion: Aug-2008; PackageVersion: revB, Oct-2009; PackageReference: SQA32A; Publisher: Altium Limited; PackageDescription: LLP, Quad, 5 x 5 x 0.8mm, 32 Lead, 0.5mm Pitch, No Pullback 3.1 x 3.1 Exposed Pad; RoHS: Y; PinCount: 32; ComponentLink1Description: LP3921 Datasheet; ComponentLink1URL: http://www.national.com/ds/LP/LP3921.pdf; ComponentLink2Description: LP3921 Web Page; ComponentLink2URL: http://www.national.com/pf/LP/LP3921.html; ComponentLink3Description: SQA32A Package Page; ComponentLink3URL: http://www.national.com/packaging/folders/sqa32a.html
footprint SQA32A (QFN, 32-Leads, Body 5x5mm, Pitch 0.5mm, NSC Recommended)
pins: 1 LDO6 (TX) (power), 2 TX_EN (in), 3 LDO5 (RX) (power), 4 VIN2 (power), 5 LDO7 (GP) (power), 6 OUT+ (out), 7 VDD (power), 8 OUT- (out), 9 IN+ (in), 10 IN- (in), 11 GND (power), 12 BYPASS, 13 LDO4 (TCXO) (power), 14 LDO3 (ANA) (power), 15 LDO2 (DIGI) (power), 16 LDO1 (CORE) (power), 17 VIN1 (power), 18 GNDA (power), 19 SDA (io), 20 SCL (in), 21 BATT (power), 22 CHG_IN (power), 23 PWR_ON (in), 24 IMON (out), 25 PS_HOLD (in), 26 TCXO_EN (in), 27 HF_PWR (in), 28 VSS (power), 29 PON_N (out), 30 RESET_N (out), 31 ACOK_N (out), 32 RX_EN (in), 33 Thermal Pad (power)

## LP3921SQ/NOPB
designator U?
Battery Charger Management and Regulator Unit with Integrated Boomer Audio Amplifier, 32-pin LLP, Pb-Free; PartNumber: LP3921SQ/NOPB; Manufacturer: National Semiconductor; PackageTopMarking: NS*UZXYTT*L3921SQ; PowerWise: N; CompType: MiscPower; Published: 1-Mar-2010; DatasheetVersion: Aug-2008; PackageVersion: revB, Oct-2009; PackageReference: SQA32A; Publisher: Altium Limited; PackageDescription: LLP, Quad, 5 x 5 x 0.8mm, 32 Lead, 0.5mm Pitch, No Pullback 3.1 x 3.1 Exposed Pad; Supplier 1: Digi-Key; Supplier Part Number 1: LP3921SQ-ND; RoHS: Y; PinCount: 32; ComponentLink1Description: LP3921 Datasheet; ComponentLink1URL: http://www.national.com/ds/LP/LP3921.pdf; ComponentLink2Description: LP3921 Web Page; ComponentLink2URL: http://www.national.com/pf/LP/LP3921.html; ComponentLink3Description: SQA32A Package Page; ComponentLink3URL: http://www.national.com/packaging/folders/sqa32a.html
footprint SQA32A (QFN, 32-Leads, Body 5x5mm, Pitch 0.5mm, NSC Recommended)
pins: 1 LDO6 (TX) (power), 2 TX_EN (in), 3 LDO5 (RX) (power), 4 VIN2 (power), 5 LDO7 (GP) (power), 6 OUT+ (out), 7 VDD (power), 8 OUT- (out), 9 IN+ (in), 10 IN- (in), 11 GND (power), 12 BYPASS, 13 LDO4 (TCXO) (power), 14 LDO3 (ANA) (power), 15 LDO2 (DIGI) (power), 16 LDO1 (CORE) (power), 17 VIN1 (power), 18 GNDA (power), 19 SDA (io), 20 SCL (in), 21 BATT (power), 22 CHG_IN (power), 23 PWR_ON (in), 24 IMON (out), 25 PS_HOLD (in), 26 TCXO_EN (in), 27 HF_PWR (in), 28 VSS (power), 29 PON_N (out), 30 RESET_N (out), 31 ACOK_N (out), 32 RX_EN (in), 33 Thermal Pad (power)

## LP3921SQE/NOPB
designator U?
Battery Charger Management and Regulator Unit with Integrated Boomer Audio Amplifier, 32-pin LLP, Pb-Free; PartNumber: LP3921SQE/NOPB; Manufacturer: National Semiconductor; PackageTopMarking: NS*UZXYTT*L3921SQ; PowerWise: N; CompType: MiscPower; Published: 1-Mar-2010; DatasheetVersion: Aug-2008; PackageVersion: revB, Oct-2009; PackageReference: SQA32A; Publisher: Altium Limited; PackageDescription: LLP, Quad, 5 x 5 x 0.8mm, 32 Lead, 0.5mm Pitch, No Pullback 3.1 x 3.1 Exposed Pad; Supplier 1: Digi-Key; Supplier Part Number 1: LP3921SQECT-ND; Supplier 2: Digi-Key; Supplier Part Number 2: LP3921SQEDKR-ND; RoHS: Y; PinCount: 32; ComponentLink1Description: LP3921 Datasheet; ComponentLink1URL: http://www.national.com/ds/LP/LP3921.pdf; ComponentLink2Description: LP3921 Web Page; ComponentLink2URL: http://www.national.com/pf/LP/LP3921.html; ComponentLink3Description: SQA32A Package Page; ComponentLink3URL: http://www.national.com/packaging/folders/sqa32a.html
footprint SQA32A (QFN, 32-Leads, Body 5x5mm, Pitch 0.5mm, NSC Recommended)
pins: 1 LDO6 (TX) (power), 2 TX_EN (in), 3 LDO5 (RX) (power), 4 VIN2 (power), 5 LDO7 (GP) (power), 6 OUT+ (out), 7 VDD (power), 8 OUT- (out), 9 IN+ (in), 10 IN- (in), 11 GND (power), 12 BYPASS, 13 LDO4 (TCXO) (power), 14 LDO3 (ANA) (power), 15 LDO2 (DIGI) (power), 16 LDO1 (CORE) (power), 17 VIN1 (power), 18 GNDA (power), 19 SDA (io), 20 SCL (in), 21 BATT (power), 22 CHG_IN (power), 23 PWR_ON (in), 24 IMON (out), 25 PS_HOLD (in), 26 TCXO_EN (in), 27 HF_PWR (in), 28 VSS (power), 29 PON_N (out), 30 RESET_N (out), 31 ACOK_N (out), 32 RX_EN (in), 33 Thermal Pad (power)

## LP3921SQX/NOPB
designator U?
Battery Charger Management and Regulator Unit with Integrated Boomer Audio Amplifier, 32-pin LLP, Pb-Free; PartNumber: LP3921SQX/NOPB; Manufacturer: National Semiconductor; PackageTopMarking: NS*UZXYTT*L3921SQ; PowerWise: N; CompType: MiscPower; Published: 1-Mar-2010; DatasheetVersion: Aug-2008; PackageVersion: revB, Oct-2009; PackageReference: SQA32A; Publisher: Altium Limited; PackageDescription: LLP, Quad, 5 x 5 x 0.8mm, 32 Lead, 0.5mm Pitch, No Pullback 3.1 x 3.1 Exposed Pad; Supplier 1: Digi-Key; Supplier Part Number 1: LP3921SQX-ND; RoHS: Y; PinCount: 32; ComponentLink1Description: LP3921 Datasheet; ComponentLink1URL: http://www.national.com/ds/LP/LP3921.pdf; ComponentLink2Description: LP3921 Web Page; ComponentLink2URL: http://www.national.com/pf/LP/LP3921.html; ComponentLink3Description: SQA32A Package Page; ComponentLink3URL: http://www.national.com/packaging/folders/sqa32a.html
footprint SQA32A (QFN, 32-Leads, Body 5x5mm, Pitch 0.5mm, NSC Recommended)
pins: 1 LDO6 (TX) (power), 2 TX_EN (in), 3 LDO5 (RX) (power), 4 VIN2 (power), 5 LDO7 (GP) (power), 6 OUT+ (out), 7 VDD (power), 8 OUT- (out), 9 IN+ (in), 10 IN- (in), 11 GND (power), 12 BYPASS, 13 LDO4 (TCXO) (power), 14 LDO3 (ANA) (power), 15 LDO2 (DIGI) (power), 16 LDO1 (CORE) (power), 17 VIN1 (power), 18 GNDA (power), 19 SDA (io), 20 SCL (in), 21 BATT (power), 22 CHG_IN (power), 23 PWR_ON (in), 24 IMON (out), 25 PS_HOLD (in), 26 TCXO_EN (in), 27 HF_PWR (in), 28 VSS (power), 29 PON_N (out), 30 RESET_N (out), 31 ACOK_N (out), 32 RX_EN (in), 33 Thermal Pad (power)

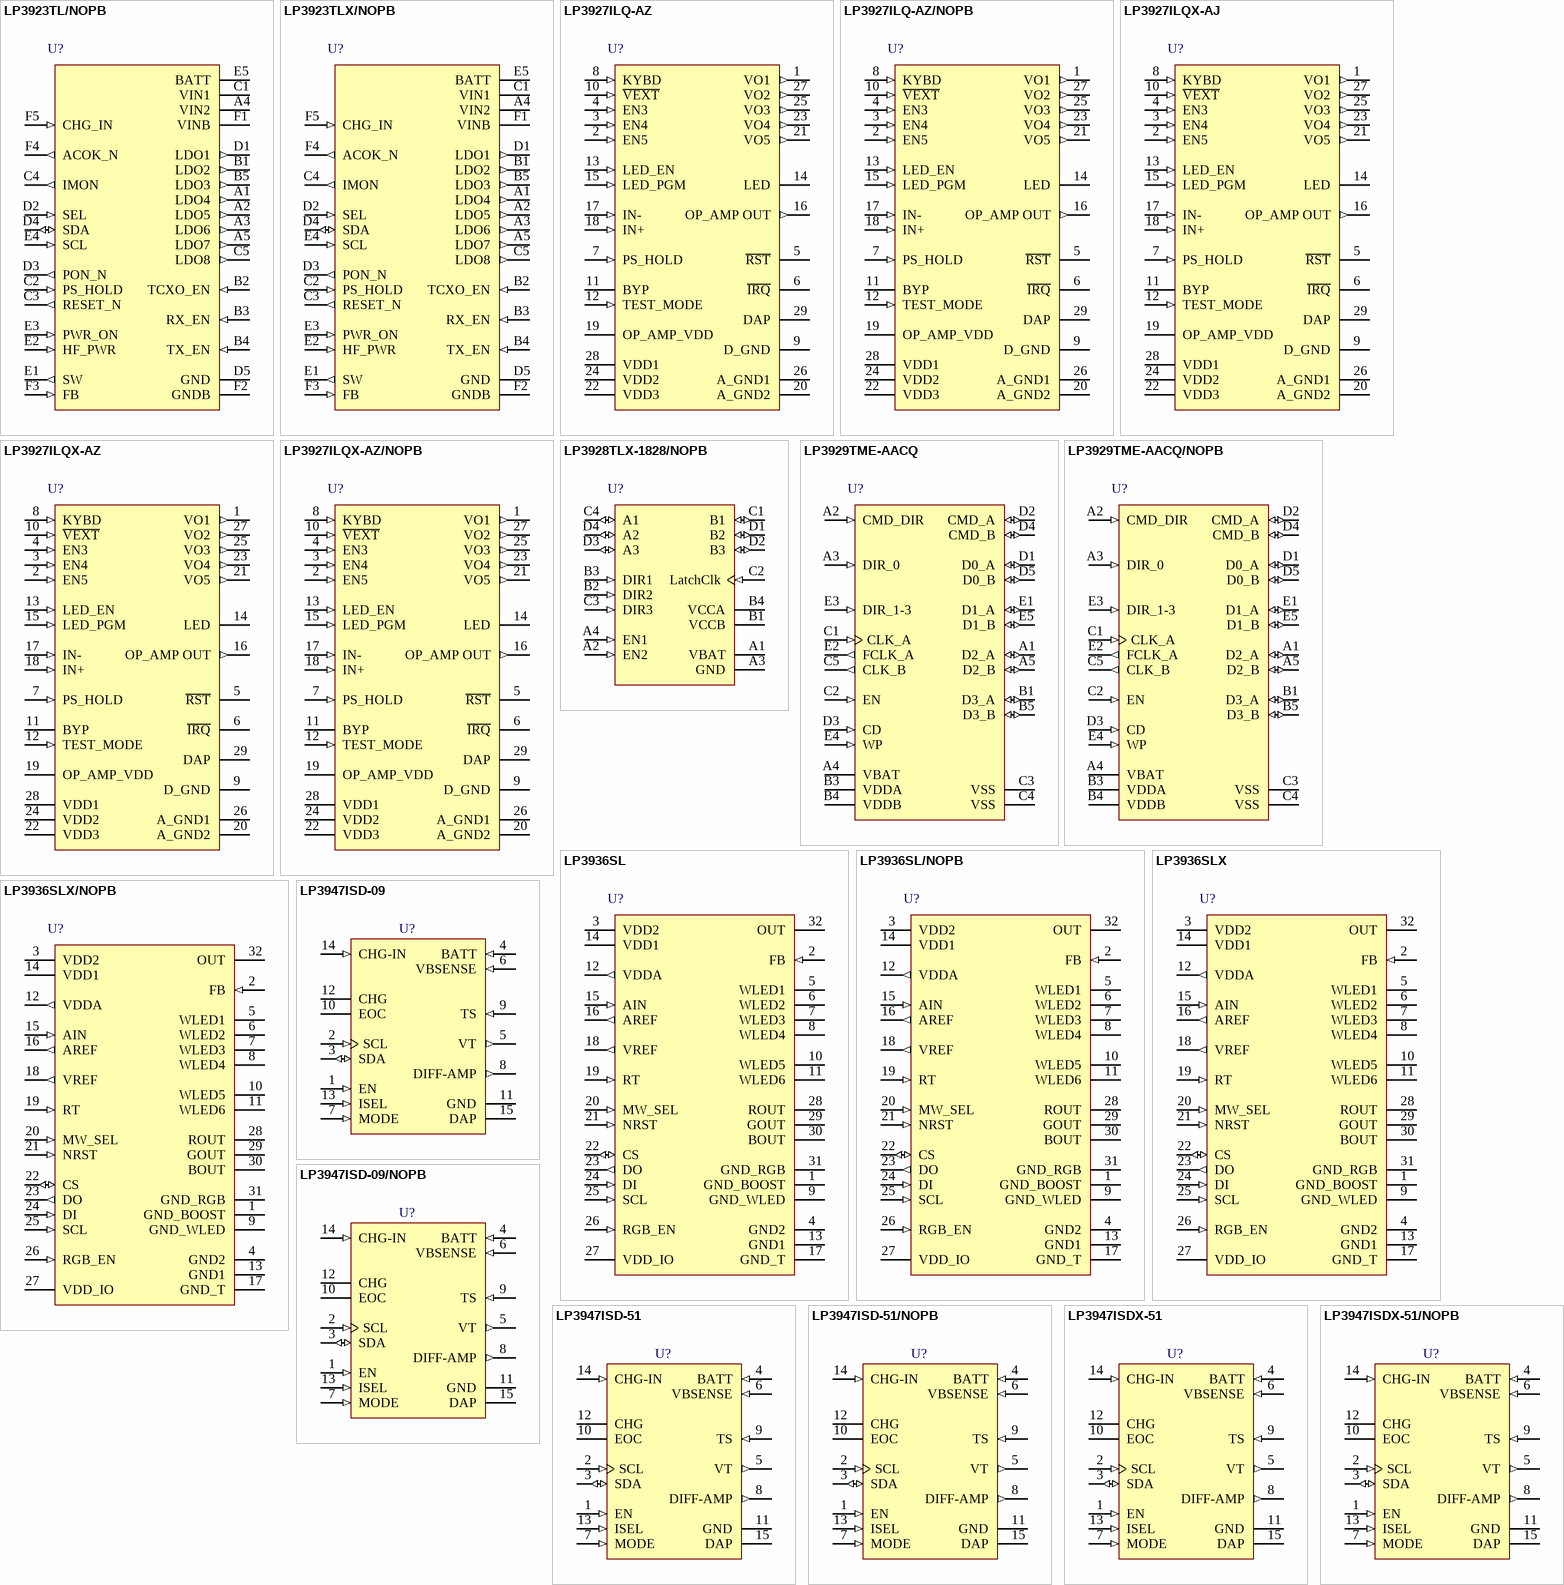
[diagram p39: symbols LP3923TL/NOPB to LP3947ISDX-51/NOPB]

## LP3923TL/NOPB
designator U?
Cellular Phone Power Management Unit, 30 pin MICRO SMD; PartNumber: LP3923TL/NOPB; Manufacturer: National Semiconductor; PackageTopMarking: XYTT*I 3923; PowerWise: N; CompType: MiscPower; Published: 16-Nov-2010; DatasheetVersion: Apr-2010; PackageVersion: revC, Dec-2003; PackageReference: TLA3011A; Publisher: Altium Limited; PackageDescription: Thin Micro SMD, 30 Bump (Large), 0.5mm Pitch; Supplier 1: Digi-Key; Supplier Part Number 1: LP3923TLTR-ND; Supplier 2: Digi-Key; Supplier Part Number 2: LP3923TLCT-ND; Supplier 3: Digi-Key; Supplier Part Number 3: LP3923TLDKR-ND; RoHS: Y; PinCount: 30; Code_JEDEC: MO-211-DJ; ComponentLink1Description: LP3923 Datasheet; ComponentLink1URL: http://www.national.com/ds/LP/LP3923.pdf; ComponentLink2Description: LP3923 Web Page; ComponentLink2URL: http://www.national.com/pf/LP/LP3923.html; ComponentLink3Description: TLA3011A Package Page; ComponentLink3URL: http://www.national.com/packaging/folders/tla3011a.html
footprint TLA3011A (Micro SMD, 30-Leads, Body 2.97x2.47mm, Pitch 0.5mm, NSC Recommended)
pins: A1 LDO4 (out), A2 LDO5 (out), A3 LDO6 (out), A4 VIN2 (power), A5 LDO7 (out), B1 LDO2 (out), B2 TCXO_EN (in), B3 RX_EN (in), B4 TX_EN (in), B5 LDO3 (out), C1 VIN1 (power), C2 PS_HOLD (in), C3 RESET_N (out), C4 IMON (out), C5 LDO8 (out), D1 LDO1 (out), D2 SEL (in), D3 PON_N (out), D4 SDA (io), D5 GND (power), E1 SW (out), E2 HF_PWR (in), E3 PWR_ON (in), E4 SCL (in), E5 BATT (power), F1 VINB (power), F2 GNDB (power), F3 FB (in), F4 ACOK_N (out), F5 CHG_IN (in)

## LP3923TLX/NOPB
designator U?
Cellular Phone Power Management Unit, 30 pin MICRO SMD; PartNumber: LP3923TLX/NOPB; Manufacturer: National Semiconductor; PackageTopMarking: XYTT*I 3923; PowerWise: N; CompType: MiscPower; Published: 16-Nov-2010; DatasheetVersion: Apr-2010; PackageVersion: revC, Dec-2003; PackageReference: TLA3011A; Publisher: Altium Limited; PackageDescription: Thin Micro SMD, 30 Bump (Large), 0.5mm Pitch; RoHS: Y; PinCount: 30; Code_JEDEC: MO-211-DJ; ComponentLink1Description: LP3923 Datasheet; ComponentLink1URL: http://www.national.com/ds/LP/LP3923.pdf; ComponentLink2Description: LP3923 Web Page; ComponentLink2URL: http://www.national.com/pf/LP/LP3923.html; ComponentLink3Description: TLA3011A Package Page; ComponentLink3URL: http://www.national.com/packaging/folders/tla3011a.html
footprint TLA3011A (Micro SMD, 30-Leads, Body 2.97x2.47mm, Pitch 0.5mm, NSC Recommended)
pins: A1 LDO4 (out), A2 LDO5 (out), A3 LDO6 (out), A4 VIN2 (power), A5 LDO7 (out), B1 LDO2 (out), B2 TCXO_EN (in), B3 RX_EN (in), B4 TX_EN (in), B5 LDO3 (out), C1 VIN1 (power), C2 PS_HOLD (in), C3 RESET_N (out), C4 IMON (out), C5 LDO8 (out), D1 LDO1 (out), D2 SEL (in), D3 PON_N (out), D4 SDA (io), D5 GND (power), E1 SW (out), E2 HF_PWR (in), E3 PWR_ON (in), E4 SCL (in), E5 BATT (power), F1 VINB (power), F2 GNDB (power), F3 FB (in), F4 ACOK_N (out), F5 CHG_IN (in)

## LP3927ILQ-AZ
designator U?
Cellular/PCS System Power Management IC, 28-pin LLP; PartNumber: LP3927ILQ-AZ; Manufacturer: National Semiconductor; PowerWise: N; CompType: MiscPower; Published: 4-Dec-2008; DatasheetVersion: Dec-2005; PackageVersion: revB, Jul-2001; PackageReference: LQA28A; Publisher: Altium Limited; PackageDescription: LLP, Plastic, Quad, 5 x 5 x 0.75mm Body, 28 Lead, 0.5mm Pitch; RoHS: N; PinCount: 28; Code_JEDEC: MO-220-WHHD-1; ComponentLink1Description: LP3927 Datasheet; ComponentLink1URL: http://www.national.com/ds/LP/LP3927.pdf; ComponentLink2Description: LP3927 Web Page; ComponentLink2URL: http://www.national.com/pf/LP/LP3927.html; ComponentLink3Description: LQA28A Package Page; ComponentLink3URL: http://www.national.com/packaging/folders/lqa28a.html
footprint LQA28A (PQFN, 28-Leads, Body 5x5mm, Pitch 0.5mm, NSC Recommended)
pins: 1 VO1 (out), 2 EN5 (in), 3 EN4 (in), 4 EN3 (in), 5 ~{RST} (oc), 6 ~{IRQ} (oc), 7 PS_HOLD (in), 8 KYBD (in), 9 D_GND (power), 10 ~{VEXT} (in), 11 BYP, 12 TEST_MODE (in), 13 LED_EN (in), 14 LED (oc), 15 LED_PGM (in), 16 OP_AMP OUT (out), 17 IN- (in), 18 IN+ (in), 19 OP_AMP_VDD (power), 20 A_GND2 (power), 21 VO5 (out), 22 VDD3 (power), 23 VO4 (out), 24 VDD2 (power), 25 VO3 (out), 26 A_GND1 (power), 27 VO2 (out), 28 VDD1 (power), 29 DAP (power)

## LP3927ILQ-AZ/NOPB
designator U?
Cellular/PCS System Power Management IC, 28-pin LLP, Pb-Free; PartNumber: LP3927ILQ-AZ/NOPB; Manufacturer: National Semiconductor; PowerWise: N; CompType: MiscPower; Published: 1-Mar-2010; DatasheetVersion: Dec-2005; PackageVersion: revB, Jul-2001; PackageReference: LQA28A; Publisher: Altium Limited; PackageDescription: LLP, Plastic, Quad, 5 x 5 x 0.75mm Body, 28 Lead, 0.5mm Pitch; Supplier 1: Digi-Key; Supplier Part Number 1: LP3927ILQ-AZ-ND; RoHS: Y; PinCount: 28; Code_JEDEC: MO-220-WHHD-1; ComponentLink1Description: LP3927 Datasheet; ComponentLink1URL: http://www.national.com/ds/LP/LP3927.pdf; ComponentLink2Description: LP3927 Web Page; ComponentLink2URL: http://www.national.com/pf/LP/LP3927.html; ComponentLink3Description: LQA28A Package Page; ComponentLink3URL: http://www.national.com/packaging/folders/lqa28a.html
footprint LQA28A (PQFN, 28-Leads, Body 5x5mm, Pitch 0.5mm, NSC Recommended)
pins: 1 VO1 (out), 2 EN5 (in), 3 EN4 (in), 4 EN3 (in), 5 ~{RST} (oc), 6 ~{IRQ} (oc), 7 PS_HOLD (in), 8 KYBD (in), 9 D_GND (power), 10 ~{VEXT} (in), 11 BYP, 12 TEST_MODE (in), 13 LED_EN (in), 14 LED (oc), 15 LED_PGM (in), 16 OP_AMP OUT (out), 17 IN- (in), 18 IN+ (in), 19 OP_AMP_VDD (power), 20 A_GND2 (power), 21 VO5 (out), 22 VDD3 (power), 23 VO4 (out), 24 VDD2 (power), 25 VO3 (out), 26 A_GND1 (power), 27 VO2 (out), 28 VDD1 (power), 29 DAP (power)

## LP3927ILQX-AJ
designator U?
Cellular/PCS System Power Management IC, 28-pin LLP; PartNumber: LP3927ILQX-AJ; Manufacturer: National Semiconductor; PowerWise: N; CompType: MiscPower; Published: 4-Dec-2008; DatasheetVersion: Dec-2005; PackageVersion: revB, Jul-2001; PackageReference: LQA28A; Publisher: Altium Limited; PackageDescription: LLP, Plastic, Quad, 5 x 5 x 0.75mm Body, 28 Lead, 0.5mm Pitch; RoHS: N; PinCount: 28; Code_JEDEC: MO-220-WHHD-1; ComponentLink1Description: LP3927 Datasheet; ComponentLink1URL: http://www.national.com/ds/LP/LP3927.pdf; ComponentLink2Description: LP3927 Web Page; ComponentLink2URL: http://www.national.com/pf/LP/LP3927.html; ComponentLink3Description: LQA28A Package Page; ComponentLink3URL: http://www.national.com/packaging/folders/lqa28a.html
footprint LQA28A (PQFN, 28-Leads, Body 5x5mm, Pitch 0.5mm, NSC Recommended)
pins: 1 VO1 (out), 2 EN5 (in), 3 EN4 (in), 4 EN3 (in), 5 ~{RST} (oc), 6 ~{IRQ} (oc), 7 PS_HOLD (in), 8 KYBD (in), 9 D_GND (power), 10 ~{VEXT} (in), 11 BYP, 12 TEST_MODE (in), 13 LED_EN (in), 14 LED (oc), 15 LED_PGM (in), 16 OP_AMP OUT (out), 17 IN- (in), 18 IN+ (in), 19 OP_AMP_VDD (power), 20 A_GND2 (power), 21 VO5 (out), 22 VDD3 (power), 23 VO4 (out), 24 VDD2 (power), 25 VO3 (out), 26 A_GND1 (power), 27 VO2 (out), 28 VDD1 (power), 29 DAP (power)

## LP3927ILQX-AZ
designator U?
Cellular/PCS System Power Management IC, 28-pin LLP; PartNumber: LP3927ILQX-AZ; Manufacturer: National Semiconductor; PowerWise: N; CompType: MiscPower; Published: 1-Mar-2010; DatasheetVersion: Dec-2005; PackageVersion: revB, Jul-2001; PackageReference: LQA28A; Publisher: Altium Limited; PackageDescription: LLP, Plastic, Quad, 5 x 5 x 0.75mm Body, 28 Lead, 0.5mm Pitch; RoHS: N; PinCount: 28; Code_JEDEC: MO-220-WHHD-1; ComponentLink1Description: LP3927 Datasheet; ComponentLink1URL: http://www.national.com/ds/LP/LP3927.pdf; ComponentLink2Description: LP3927 Web Page; ComponentLink2URL: http://www.national.com/pf/LP/LP3927.html; ComponentLink3Description: LQA28A Package Page; ComponentLink3URL: http://www.national.com/packaging/folders/lqa28a.html
footprint LQA28A (PQFN, 28-Leads, Body 5x5mm, Pitch 0.5mm, NSC Recommended)
pins: 1 VO1 (out), 2 EN5 (in), 3 EN4 (in), 4 EN3 (in), 5 ~{RST} (oc), 6 ~{IRQ} (oc), 7 PS_HOLD (in), 8 KYBD (in), 9 D_GND (power), 10 ~{VEXT} (in), 11 BYP, 12 TEST_MODE (in), 13 LED_EN (in), 14 LED (oc), 15 LED_PGM (in), 16 OP_AMP OUT (out), 17 IN- (in), 18 IN+ (in), 19 OP_AMP_VDD (power), 20 A_GND2 (power), 21 VO5 (out), 22 VDD3 (power), 23 VO4 (out), 24 VDD2 (power), 25 VO3 (out), 26 A_GND1 (power), 27 VO2 (out), 28 VDD1 (power), 29 DAP (power)